# EAGLE library part NOKIA5110 (library tiltGame)
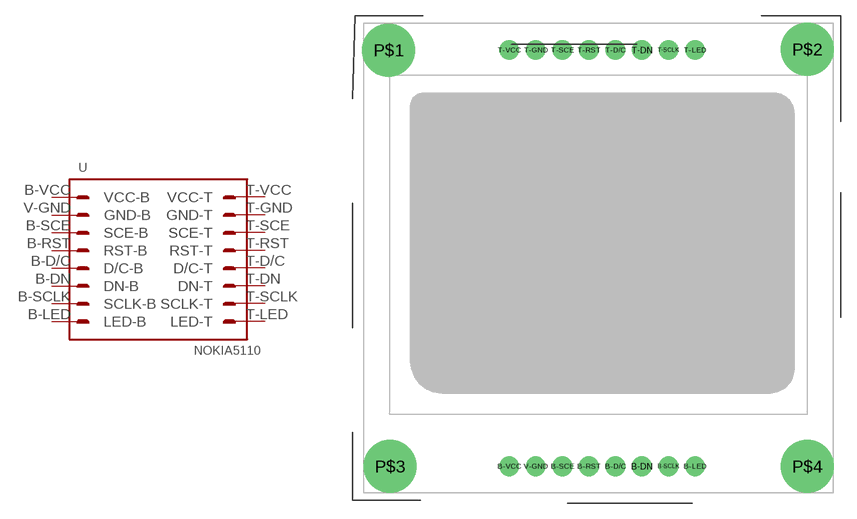
[diagram p0: symbol with the pads of NOKIA5110; footprint NOKIA5110]

Designator prefix -

## NOKIA5110  [NOKIA5110]
B-D/C  D/C-B
B-DN  DN-B
B-LED  LED-B
B-RST  RST-B
B-SCE  SCE-B
B-SCLK  SCLK-B
B-VCC  VCC-B
T-D/C  D/C-T
T-DN  DN-T
T-GND  GND-T
T-LED  LED-T
T-RST  RST-T
T-SCE  SCE-T
T-SCLK  SCLK-T
T-VCC  VCC-T
V-GND  GND-B

## Footprint NOKIA5110 (pad centres in mm)
drill 1.016 pad 1.88: B-D/C 24.13,2.54; B-DN 26.67,2.54; B-LED 31.75,2.54; B-RST 21.59,2.54; B-SCE 19.05,2.54; B-SCLK 29.21,2.54; B-VCC 13.97,2.54; T-D/C 24.13,42.418; T-DN 26.67,42.418; T-GND 16.51,42.418; T-LED 31.75,42.418; T-RST 21.59,42.418; T-SCE 19.05,42.418; T-SCLK 29.21,42.418; T-VCC 13.97,42.418; V-GND 16.51,2.54
drill 4.064: P$1 2.413,42.421; P$2 42.5,42.5; P$3 2.54,2.54; P$4 42.5,2.54